# Altium schematic symbol library Jacks.SchLib: 2 symbols
Pins are listed as number, name and electrical type; pins without a type are passive.

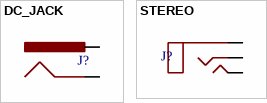
[diagram p0: symbols DC_JACK to STEREO]

## DC_JACK
designator J?
DC Power jack 2.1mm barrel; Price: 0.05
footprint DC_JACK
pins: GND, PWR

## STEREO
designator J?
6.35mm stereo insulated socket jack PCB mounted; Price: 0.5
footprint STEREO
pins: R, S, T